# EAGLE library part 043045061* (library RoboJackets-Connectors)
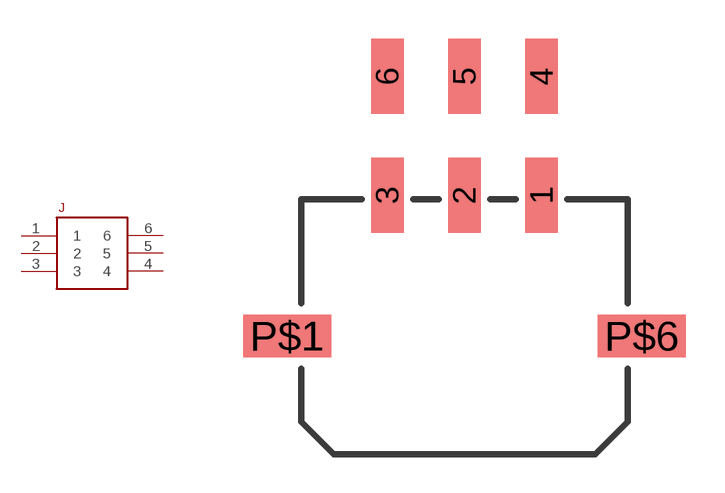
[diagram p12: symbol with the pads of 0430450610; footprint 0430450610]

Designator prefix J

## 0430450610  [0430450610]
1  1
2  2
3  3
4  4
5  5
6  6

## Footprint 0430450610 (pad centres in mm)
smd 1.27 x 2.92: 1 3,5.47; 2 0,5.47; 3 -3,5.47; 4 3,10.1; 5 0,10.1; 6 -3,10.1
smd 3.43 x 1.65: P$1 -6.895,0; P$6 6.895,0